# Altium schematic symbol library Res-Array.SchLib: 1 symbol
Pins are listed as number, name and electrical type; pins without a type are passive.

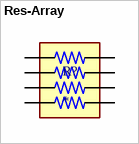
[diagram p0: symbol Res-Array]

## Res-Array
designator R?
MP: TC164-JR-0768KL; Package: None; Price: None; Value: *; Availability: Unavailable
footprint RESCAV80P320X160X70-8N
pins: 1, 2, 3, 4, 5, 6, 7, 8